# Altium schematic symbol library C_0603.SchLib: 1 symbol
Pins are listed as number, name and electrical type; pins without a type are passive.

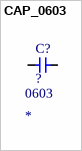
[diagram p0: symbol CAP_0603]

## CAP_0603
designator C?, comment ?  Package: 0603
Multilayer Ceramic Capacitors MLCC - SMD/SMT ROHS; Manufacturer: *; Manufacturer Part: *; Value: ?; LCSC: *; Voltage: *
footprint C0603
pins: 1, 2